# Altium footprint library 400150.PcbLib: 47 footprints (part 2 of 3)
Each footprint in its own frame and in the unit in brackets; x right, y up, seen from the top. Pads: shape width x height; smd on the part's side, far side on the other; paste and mask are expansions set on the pad; w line width, h text height; cw(c..) or ccw(c..) is an arc to the next point about the centre after c.
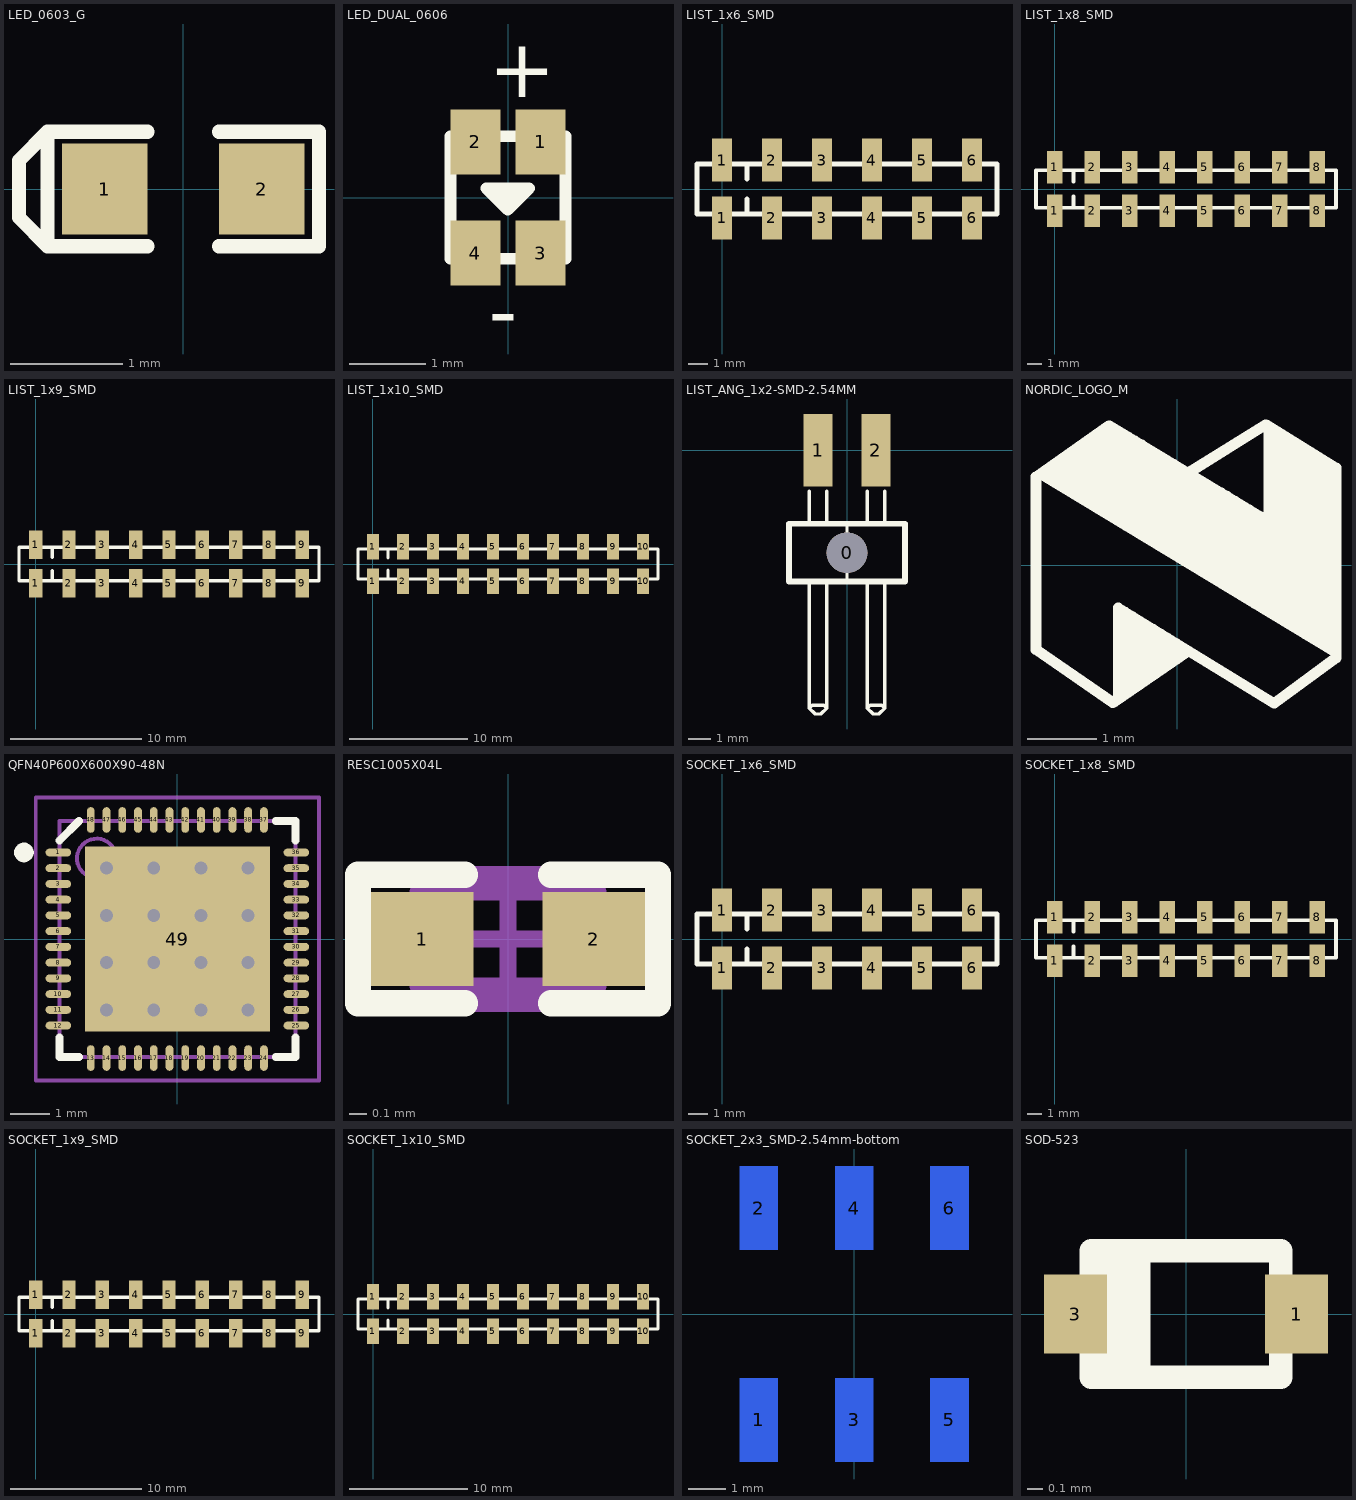
[diagram p1: the footprints below, top view; thin cyan lines are the x and y axes]

## LED_0603_G [mil]
pads (2):
  rect 30x32 smd: 1(-27.5,0) 2(27.5,0)
Top Overlay:
  lines w5: -12.5,-20 -47.5,-20 ; -12.5,20 -47.5,20 ; 12.5,-20 47.5,-20 47.5,20 12.5,20 ; -47.5,-20 -47.5,20 ; -47.5,-20 -57.5,-10 -57.5,10 -47.5,20
3D body "User Library-led_0603_green.step": height 23.62, standoff 0, extent -31.63,-15.75 32.15,15.75

## LED_DUAL_0606 [mm]
pads (4):
  rect 0.65x0.85 smd paste+0: 1(0.425,0.725) 2(-0.425,0.725) 3(0.425,-0.725) 4(-0.425,-0.725)
Top Overlay:
  region: -0.285,0.12 -0.005,-0.16 0.275,0.12
  lines w0.15: -0.75,-0.8 0.75,-0.8 ; -0.75,0.8 0.75,0.8
  lines w0.152: -0.75,-0.8 -0.75,0.8 ; 0.75,-0.8 0.75,0.8 ; -0.285,0.12 -0.005,-0.16 0.275,0.12 -0.285,0.12
  text "-" at -0.254,-1.845 h0.76
  text "+" at -0.254,1.305 h0.76
3D body: height 0.36, standoff 0.18, extent -0.525,-0.15 -0.225,0.15
3D body: height 0.18, standoff 0, extent -0.75,-0.8 0.75,0.8
3D body: height 0.55, standoff 0.18, extent -0.75,-0.55 0.75,0.55
3D body: height 0.36, standoff 0.18, extent 0.235,-0.15 0.535,0.15

## LIST_1x6_SMD [mm]
pads (12):
  rect 1.02x2.19 smd: 1(0,-1.465) 1(0,1.465) 2(2.54,-1.465) 2(2.54,1.465) 3(5.08,-1.465) 3(5.08,1.465) 4(7.62,-1.465) 4(7.62,1.465) 5(10.16,-1.465) 5(10.16,1.465) 6(12.7,-1.465) 6(12.7,1.465)
Top Overlay:
  lines w0.254: 1.27,-1.27 1.27,-0.508 ; 1.27,0.508 1.27,1.27 ; -1.27,-1.27 -1.27,1.27 13.97,1.27 13.97,-1.27 -1.27,-1.27

## LIST_1x8_SMD [mm]
pads (16):
  rect 1.02x2.19 smd: 1(0,-1.465) 1(0,1.465) 2(2.54,-1.465) 2(2.54,1.465) 3(5.08,-1.465) 3(5.08,1.465) 4(7.62,-1.465) 4(7.62,1.465) 5(10.16,-1.465) 5(10.16,1.465) 6(12.7,-1.465) 6(12.7,1.465) 7(15.24,-1.465) 7(15.24,1.465) 8(17.78,-1.465) 8(17.78,1.465)
Top Overlay:
  lines w0.254: 1.27,-1.27 1.27,-0.508 ; 1.27,0.508 1.27,1.27 ; -1.27,-1.27 19.05,-1.27 19.05,1.27 -1.27,1.27 -1.27,-1.27
3D body "pin_header_a-sl254-eg-g08mp1.stp": height 9.82, standoff -0.02, extent -1.27,-2.5 19.05,2.5

## LIST_1x9_SMD [mm]
pads (18):
  rect 1.02x2.19 smd: 1(0,-1.465) 1(0,1.465) 2(2.54,-1.465) 2(2.54,1.465) 3(5.08,-1.465) 3(5.08,1.465) 4(7.62,-1.465) 4(7.62,1.465) 5(10.16,-1.465) 5(10.16,1.465) 6(12.7,-1.465) 6(12.7,1.465) 7(15.24,-1.465) 7(15.24,1.465) 8(17.78,-1.465) 8(17.78,1.465) 9(20.32,-1.465) 9(20.32,1.465)
Top Overlay:
  lines w0.254: 1.27,-1.27 1.27,-0.508 ; 1.27,0.508 1.27,1.27 ; -1.27,-1.27 21.59,-1.27 21.59,1.27 -1.27,1.27 -1.27,-1.27

## LIST_1x10_SMD [mm]
pads (20):
  rect 1.02x2.19 smd: 1(0,-1.465) 1(0,1.465) 2(2.54,-1.465) 2(2.54,1.465) 3(5.08,-1.465) 3(5.08,1.465) 4(7.62,-1.465) 4(7.62,1.465) 5(10.16,-1.465) 5(10.16,1.465) 6(12.7,-1.465) 6(12.7,1.465) 7(15.24,-1.465) 7(15.24,1.465) 8(17.78,-1.465) 8(17.78,1.465) 9(20.32,-1.465) 9(20.32,1.465) 10(22.86,-1.465) 10(22.86,1.465)
Top Overlay:
  lines w0.254: 1.27,-1.27 1.27,-0.508 ; 1.27,0.508 1.27,1.27 ; -1.27,-1.27 24.13,-1.27 24.13,1.27 -1.27,1.27 -1.27,-1.27

## LIST_ANG_1x2-SMD-2.54MM [mm]
pads (3):
  round 1.78 hole 1.78: 0(0,-4.496)
  rect 1.27x3.18 smd: 1(-1.27,0) 2(1.27,0)
Top Overlay:
  lines w0.15: -1.651,-5.766 -1.651,-11.324 ; -1.651,-3.226 -1.651,-1.8 ; -0.889,-5.766 -0.889,-11.324 ; -0.889,-3.226 -0.889,-1.8 ; 0,-5.766 0,-3.226 ; 0.889,-5.766 0.889,-11.324 ; 0.889,-3.226 0.889,-1.8 ; 1.651,-5.766 1.651,-11.324 ; 1.651,-3.226 1.651,-1.8 ; -1.651,-11.324 -1.397,-11.578 -1.143,-11.578 -0.889,-11.324 ; -1.651,-11.324 -1.524,-11.197 -1.016,-11.197 -0.889,-11.324 ; 0.889,-11.324 1.143,-11.578 1.397,-11.578 1.651,-11.324 ; 0.889,-11.324 1.016,-11.197 1.524,-11.197 1.651,-11.324
  lines w0.254: -2.54,-5.766 -2.54,-3.226 2.54,-3.226 2.54,-5.766 -2.54,-5.766
3D body "Samtec-TSM-102-01-L-SH-A.step": height 3.03, standoff -1.41, extent -2.56,-11.605 2.52,1.349

## NORDIC_LOGO_M [mm]
Top Overlay:
  lines w0.152: -1.94,1.3 2.276,-1.25 ; -1.857,1.25 -0.876,1.93 ; -1.768,1.203 -0.788,1.891 ; -1.683,1.147 -0.697,1.839 ; -1.602,1.098 -0.615,1.79 ; -1.502,1.036 -0.515,1.729 ; -1.399,0.979 -0.417,1.668 ; -1.32,0.925 -0.332,1.619 ; -1.223,0.868 -0.237,1.56 ; -1.136,0.825 -0.157,1.512 ; -1.039,0.759 -0.055,1.449 ; -0.937,0.696 0.05,1.389 ; -0.93,-1.97 -2.03,-1.209 -2.03,1.27 -0.98,2.007 1.26,0.66 0.254,-0.025 ; -0.9,-1.956 0.16,-1.23 ; -0.85,-1.915 -0.85,-0.61 1.39,-1.98 2.276,-1.33 ; -0.832,0.633 0.17,1.336 ; -0.76,-1.85 -0.76,-0.668 ; -0.734,0.572 0.253,1.265 ; -0.64,-1.77 -0.64,-0.74 ; -0.638,0.517 0.343,1.205 ; -0.545,-1.71 -0.545,-0.8 ; -0.54,0.46 0.441,1.149 ; -0.461,0.411 0.523,1.102 ; -0.447,-1.64 -0.447,-0.86 ; -0.357,0.346 0.63,1.039 ; -0.35,-1.579 -0.35,-0.92 ; -0.274,0.295 0.714,0.988 ; -0.23,-1.497 -0.23,-0.99 ; -0.157,0.226 0.829,0.919 ; -0.14,-1.435 -0.14,-1.044 ; -0.052,0.163 0.933,0.855 ; -0.01,-1.346 -0.01,-1.124 ; 0.048,0.103 1.033,0.795 ; 0.138,0.044 1.144,0.711 ; 0.16,1.33 1.27,2.02 2.276,1.4 ; 0.22,-0.006 1.2,0.696 ; 0.305,-0.051 1.312,0.673 2.276,0.08 ; 0.426,-0.125 1.42,0.573 ; 0.534,-0.185 1.524,0.51 ; 0.635,-0.253 1.63,0.446 ; 0.741,-0.322 1.74,0.379 ; 0.836,-0.374 1.83,0.324 ; 0.932,-0.423 1.92,0.27 ; 1,-0.47 1.985,0.23 ; 1.103,-0.54 2.1,0.16 ; 1.238,-0.618 2.232,0.08 ; 1.31,1.99 1.31,0.73 ; 1.312,0.723 2.276,0.13 ; 1.312,0.853 2.276,0.26 ; 1.312,0.943 2.276,0.35 ; 1.312,1.073 2.276,0.48 ; 1.312,1.193 2.276,0.6 ; 1.312,1.273 2.276,0.68 ; 1.312,1.413 2.276,0.82 ; 1.312,1.533 2.276,0.94 ; 1.312,1.653 2.276,1.06 ; 1.312,1.743 2.276,1.15 ; 1.312,1.883 2.276,1.29 ; 1.325,-0.671 2.276,0.008 ; 1.435,-0.738 2.276,-0.136 ; 1.549,-0.809 2.276,-0.287 ; 1.645,-0.865 2.276,-0.411 ; 1.733,-0.916 2.276,-0.527 ; 1.829,-0.978 2.276,-0.651 ; 1.911,-1.028 2.276,-0.759 ; 2.025,-1.095 2.276,-0.908 ; 2.144,-1.166 2.276,-1.062 ; 2.276,-1.32 2.276,1.396

## QFN40P600X600X90-48N [mm]
pads (49):
  oval 0.65x0.2 smd: 1(-3.025,2.2) 2(-3.025,1.8) 3(-3.025,1.4) 4(-3.025,1) 5(-3.025,0.6) 6(-3.025,0.2) 7(-3.025,-0.2) 8(-3.025,-0.6) 9(-3.025,-1) 10(-3.025,-1.4) 11(-3.025,-1.8) 12(-3.025,-2.2) 25(3.025,-2.2) 26(3.025,-1.8) 27(3.025,-1.4) 28(3.025,-1) 29(3.025,-0.6) 30(3.025,-0.2) 31(3.025,0.2) 32(3.025,0.6) 33(3.025,1) 34(3.025,1.4) 35(3.025,1.8) 36(3.025,2.2)
  oval 0.2x0.65 smd: 13(-2.2,-3.025) 14(-1.8,-3.025) 15(-1.4,-3.025) 16(-1,-3.025) 17(-0.6,-3.025) 18(-0.2,-3.025) 19(0.2,-3.025) 20(0.6,-3.025) 21(1,-3.025) 22(1.4,-3.025) 23(1.8,-3.025) 24(2.2,-3.025) 37(2.2,3.025) 38(1.8,3.025) 39(1.4,3.025) 40(1,3.025) 41(0.6,3.025) 42(0.2,3.025) 43(-0.2,3.025) 44(-0.6,3.025) 45(-1,3.025) 46(-1.4,3.025) 47(-1.8,3.025) 48(-2.2,3.025)
  rect 4.7x4.7 smd: 49(0,0)
via 1.8,-1.8 diameter 0.66 hole 0.33
via 0.6,-1.8 diameter 0.66 hole 0.33
via -0.6,-1.8 diameter 0.66 hole 0.33
via -1.8,-1.8 diameter 0.66 hole 0.33
via 1.8,-0.6 diameter 0.66 hole 0.33
via 0.6,-0.6 diameter 0.66 hole 0.33
via -0.6,-0.6 diameter 0.66 hole 0.33
via -1.8,-0.6 diameter 0.66 hole 0.33
via 1.8,0.6 diameter 0.66 hole 0.33
via 0.6,0.6 diameter 0.66 hole 0.33
via -0.6,0.6 diameter 0.66 hole 0.33
via -1.8,0.6 diameter 0.66 hole 0.33
via 1.8,1.8 diameter 0.66 hole 0.33
via 0.6,1.8 diameter 0.66 hole 0.33
via -0.6,1.8 diameter 0.66 hole 0.33
via -1.8,1.8 diameter 0.66 hole 0.33
Top Overlay:
  circle w0.25: c-3.9,2.2 r0.125
  lines w0.2: -3,-2.5 -3,-3 -2.5,-3 ; -3,2.5 -2.5,3 ; 2.5,-3 3,-3 3,-2.5 ; 2.5,3 3,3 3,2.5
Mechanical 13:
  circle w0.1: c-2.05,2.05 r0.5
  lines w0.1: -3,-3 3,-3 3,3 -3,3 -3,-3
Mechanical 15:
  lines w0.1: -0.5,0 0.5,0 ; 0,-0.5 0,0.5 ; -3.6,-3.6 3.6,-3.6 3.6,3.6 -3.6,3.6 -3.6,-3.6
3D body "User Library-QFN48.step": height 0.86, standoff -0.01, extent -3.02,-3.02 3.02,3.02

## RESC1005X04L [mm]
pads (2):
  rect 0.6x0.55 smd: 1(-0.5,0) 2(0.5,0)
Top Overlay:
  lines w0.152: -0.25,-0.375 -0.875,-0.375 -0.875,0.375 -0.25,0.375 ; 0.25,-0.375 0.875,-0.375 0.875,0.375 0.25,0.375
Mechanical 13:
  lines w0.1: -0.525,-0.275 0.525,-0.275 0.525,0.275 -0.525,0.275 -0.525,-0.275
Mechanical 15:
  lines w0.1: -0.275,0 0.275,0 ; 0,-0.275 0,0.275 ; -0.875,-0.375 -0.875,0.375 0.875,0.375 0.875,-0.375 -0.875,-0.375
3D body "User Library-res0402-1.step": height 0.3, standoff 0, extent -0.5,-0.25 0.5,0.25

## SOCKET_1x6_SMD [mm]
pads (12):
  rect 1.02x2.19 smd: 1(0,-1.465) 1(0,1.465) 2(2.54,-1.465) 2(2.54,1.465) 3(5.08,-1.465) 3(5.08,1.465) 4(7.62,-1.465) 4(7.62,1.465) 5(10.16,-1.465) 5(10.16,1.465) 6(12.7,1.465) 6(12.7,-1.465)
Top Overlay:
  lines w0.254: 1.27,-1.27 1.27,-0.508 ; 1.27,0.508 1.27,1.27 ; -1.27,-1.27 13.97,-1.27 13.97,1.27 -1.27,1.27 -1.27,-1.27
3D body "Samtec-SSM-106-L-SV.step": height 7.47, standoff -0.03, extent -1.27,-2.286 13.97,2.286

## SOCKET_1x8_SMD [mm]
pads (16):
  rect 1.02x2.19 smd: 1(0,-1.465) 1(0,1.465) 2(2.54,-1.465) 2(2.54,1.465) 3(5.08,-1.465) 3(5.08,1.465) 4(7.62,-1.465) 4(7.62,1.465) 5(10.16,-1.465) 5(10.16,1.465) 6(12.7,1.465) 6(12.7,-1.465) 7(15.24,-1.465) 7(15.24,1.465) 8(17.78,-1.465) 8(17.78,1.465)
Top Overlay:
  lines w0.254: 1.27,-1.27 1.27,-0.508 ; 1.27,0.508 1.27,1.27 ; -1.27,-1.27 -1.27,1.27 19.05,1.27 19.05,-1.27 -1.27,-1.27
3D body "Samtec-SSM-108-L-SV.step": height 7.47, standoff -0.03, extent -1.27,-2.286 19.05,2.286

## SOCKET_1x9_SMD [mm]
pads (18):
  rect 1.02x2.19 smd: 1(0,-1.465) 1(0,1.465) 2(2.54,-1.465) 2(2.54,1.465) 3(5.08,-1.465) 3(5.08,1.465) 4(7.62,-1.465) 4(7.62,1.465) 5(10.16,-1.465) 5(10.16,1.465) 6(12.7,1.465) 6(12.7,-1.465) 7(15.24,-1.465) 7(15.24,1.465) 8(17.78,-1.465) 8(17.78,1.465) 9(20.32,-1.465) 9(20.32,1.465)
Top Overlay:
  lines w0.254: 1.27,-1.27 1.27,-0.508 ; 1.27,0.508 1.27,1.27 ; -1.27,-1.27 21.59,-1.27 21.59,1.27 -1.27,1.27 -1.27,-1.27
3D body "Samtec-SSM-109-L-SV.step": height 7.47, standoff 0.05, extent -1.26,-2.297 21.6,2.275

## SOCKET_1x10_SMD [mm]
pads (20):
  rect 1.02x2.19 smd: 1(0,-1.465) 1(0,1.465) 2(2.54,-1.465) 2(2.54,1.465) 3(5.08,-1.465) 3(5.08,1.465) 4(7.62,-1.465) 4(7.62,1.465) 5(10.16,-1.465) 5(10.16,1.465) 6(12.7,-1.465) 6(12.7,1.465) 7(15.24,-1.465) 7(15.24,1.465) 8(17.78,-1.465) 8(17.78,1.465) 9(20.32,-1.465) 9(20.32,1.465) 10(22.86,-1.465) 10(22.86,1.465)
Top Overlay:
  lines w0.254: 1.27,-1.27 1.27,-0.508 ; 1.27,0.508 1.27,1.27 ; -1.27,-1.27 -1.27,1.27 24.13,1.27 24.13,-1.27 -1.27,-1.27
3D body "Samtec-SSM-110-L-SV.step": height 7.47, standoff -0.03, extent -1.27,-2.286 24.13,2.286

## SOCKET_2x3_SMD-2.54mm-bottom [mm]
pads (6):
  rect 1.02x2.22 smd far side: 1(-2.54,-2.825) 2(-2.54,2.825) 3(0,-2.825) 4(0,2.825) 5(2.54,-2.825) 6(2.54,2.825)
Bottom Overlay:
  circle w0.508: c-3.936,-3.48 r0.254
  lines w0.254: -3.33,-2.54 -3.81,-2.54 -3.81,2.54 -3.33,2.54 ; -1.77,-2.54 -0.78,-2.54 ; -1.77,2.54 -0.78,2.54 ; 0.78,-2.54 1.77,-2.54 ; 0.78,2.54 1.77,2.54 ; 3.33,-2.54 3.81,-2.54 3.81,2.54 3.33,2.54

## SOD-523 [mm]
pads (2):
  rect 0.4x0.5 smd: 1(0.7,0) 3(-0.7,0)
Top Overlay:
  lines w0.15: -0.5,-0.4 -0.5,0.4 ; -0.4,-0.4 -0.4,0.4 ; -0.3,-0.4 -0.3,0.4 ; -0.6,-0.4 0.6,-0.4 0.6,0.4 -0.6,0.4 -0.6,-0.4
3D body "User Library-SOD-523F.step": height 0.7, standoff 0, extent -0.8,-0.399 0.8,0.399